# EAGLE library part SI5345B-D-GM (library SI5345B-D-GM)
Clock Synthesizer / Jitter Cleaner Low-jitter, 10-output, any frequency (< 350 MHz), any output jitter attenuator Source: Datasheet <https://www.mouser.sg/datasheet/2/472/si5345_44_42_d_datasheet-2507675.pdf>
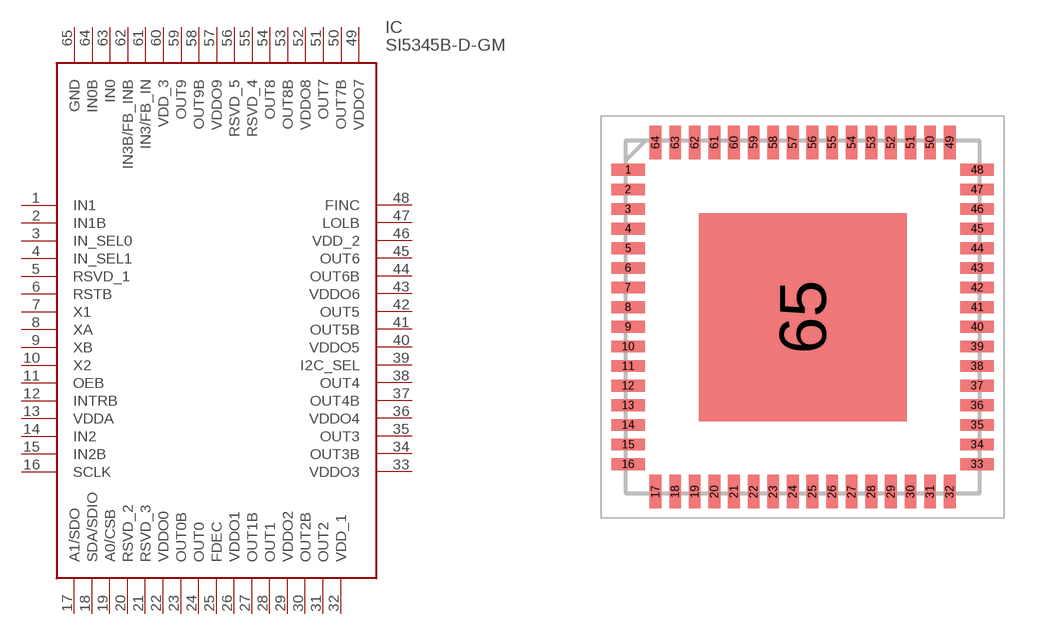
[diagram p0: symbol with the pads of QFN50P900X900X90-65N; footprint QFN50P900X900X90-65N]

Designator prefix IC

## SI5345B-D-GM (Description: Clock Synthesizer / Jitter Cleaner Low-jitter, 10-output, any frequency (< 350 MHz), any output jitter attenuator; Height: 0.9mm; Manufacturer_Name: Skyworks; Manufacturer_Part_Number: SI5345B-D-GM; Mouser_Part_Number: 634-SI5345B-D-GM; Mouser_Price-Stock: https://www.mouser.co.uk/ProductDetail/Skyworks-Solutions-Inc/SI5345B-D-GM?qs=p9T7GgSe1IGHqFUKlxUKrA%3D%3D)  [QFN50P900X900X90-65N]
1  IN1
2  IN1B
3  IN_SEL0
4  IN_SEL1
5  RSVD_1
6  RSTB
7  X1
8  XA
9  XB
10  X2
11  OEB
12  INTRB
13  VDDA
14  IN2
15  IN2B
16  SCLK
17  A1/SDO
18  SDA/SDIO
19  A0/CSB
20  RSVD_2
21  RSVD_3
22  VDDO0
23  OUT0B
24  OUT0
25  FDEC
26  VDDO1
27  OUT1B
28  OUT1
29  VDDO2
30  OUT2B
31  OUT2
32  VDD_1
33  VDDO3
34  OUT3B
35  OUT3
36  VDDO4
37  OUT4B
38  OUT4
39  I2C_SEL
40  VDDO5
41  OUT5B
42  OUT5
43  VDDO6
44  OUT6B
45  OUT6
46  VDD_2
47  LOLB
48  FINC
49  VDDO7
50  OUT7B
51  OUT7
52  VDDO8
53  OUT8B
54  OUT8
55  RSVD_4
56  RSVD_5
57  VDDO9
58  OUT9B
59  OUT9
60  VDD_3
61  IN3/FB_IN
62  IN3B/FB_INB
63  IN0
64  IN0B
65  GND

## Footprint QFN50P900X900X90-65N (pad centres in mm)
64-Pin Quad Flat No-Lead (QFN)
smd 0.85 x 0.3: 1 -4.45,3.75; 2 -4.45,3.25; 3 -4.45,2.75; 4 -4.45,2.25; 5 -4.45,1.75; 6 -4.45,1.25; 7 -4.45,0.75; 8 -4.45,0.25; 9 -4.45,-0.25; 10 -4.45,-0.75; 11 -4.45,-1.25; 12 -4.45,-1.75; 13 -4.45,-2.25; 14 -4.45,-2.75; 15 -4.45,-3.25; 16 -4.45,-3.75; 33 4.45,-3.75; 34 4.45,-3.25; 35 4.45,-2.75; 36 4.45,-2.25; 37 4.45,-1.75; 38 4.45,-1.25; 39 4.45,-0.75; 40 4.45,-0.25; 41 4.45,0.25; 42 4.45,0.75; 43 4.45,1.25; 44 4.45,1.75; 45 4.45,2.25; 46 4.45,2.75; 47 4.45,3.25; 48 4.45,3.75
smd 0.3 x 0.85: 17 -3.75,-4.45; 18 -3.25,-4.45; 19 -2.75,-4.45; 20 -2.25,-4.45; 21 -1.75,-4.45; 22 -1.25,-4.45; 23 -0.75,-4.45; 24 -0.25,-4.45; 25 0.25,-4.45; 26 0.75,-4.45; 27 1.25,-4.45; 28 1.75,-4.45; 29 2.25,-4.45; 30 2.75,-4.45; 31 3.25,-4.45; 32 3.75,-4.45; 49 3.75,4.45; 50 3.25,4.45; 51 2.75,4.45; 52 2.25,4.45; 53 1.75,4.45; 54 1.25,4.45; 55 0.75,4.45; 56 0.25,4.45; 57 -0.25,4.45; 58 -0.75,4.45; 59 -1.25,4.45; 60 -1.75,4.45; 61 -2.25,4.45; 62 -2.75,4.45; 63 -3.25,4.45; 64 -3.75,4.45
smd 5.3 x 5.3: 65 0,0